# Altium footprint library 22289033.PcbLib: 1 footprints
Each footprint in its own frame and in the unit in brackets; x right, y up, seen from the top. Pads: shape width x height; smd on the part's side, far side on the other; paste and mask are expansions set on the pad; w line width, h text height; cw(c..) or ccw(c..) is an arc to the next point about the centre after c.
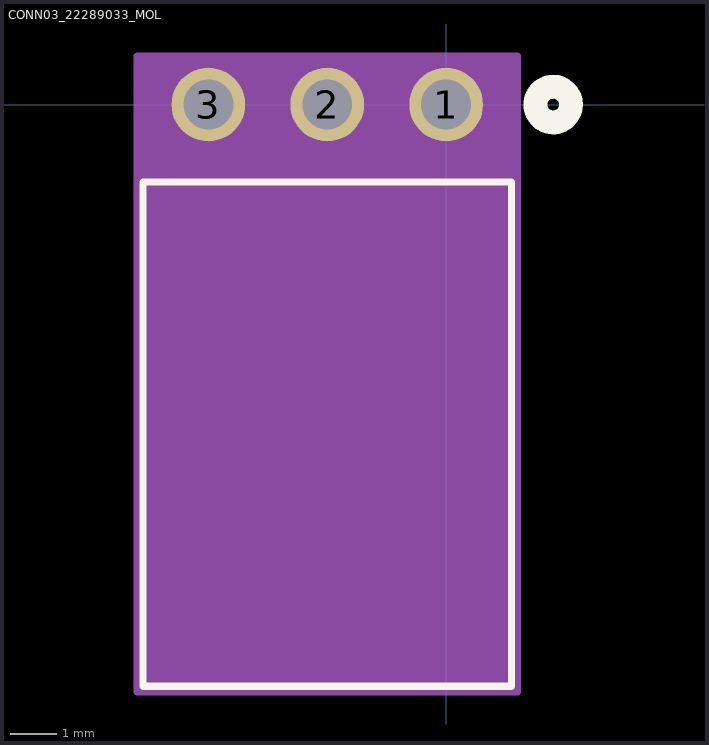
[diagram p0: the footprint, top view; thin cyan lines are the x and y axes]

## CONN03_22289033_MOL [mil]
pads (3):
  round 62 / inner round 60 / far side round 62 hole 42 paste-31 mask+0: 1(0,0) 2(-100,0) 3(-200,0)
Top Overlay:
  circle w20: c90,0 r15
  lines w6: -255,-489.08 -255,-65.08 55,-65.08 55,-489.08 -255,-489.08
Bottom Overlay:
  circle w20: c90,0 r15
Mechanical 13:
  lines w1: -250,-484.08 -250,-70.08 50,-70.08 50,-484.08 -250,-484.08
Mechanical 15:
  region: 60,41 -260,41 -260,-494.08 60,-494.08
  lines w6: -260,-494.08 60,-494.08 60,41 -260,41 -260,-494.08
3D body "022289033.stp": height 98.37, standoff -134.63, extent -250,-484 50,20.5